# EAGLE library part TQ2 (library dl9sec_public)
Panasonic TQ2 relay https://www.panasonic-electric-works.com/pew/at/de/downloads/ds_61020_en_tq_pd.pdf
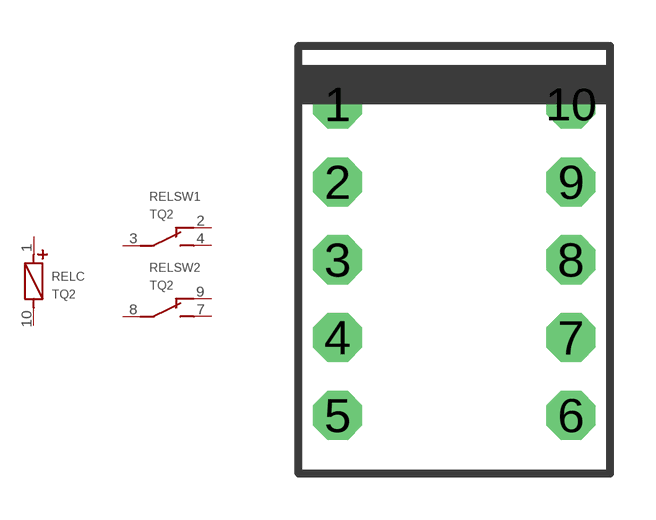
[diagram p11: symbol with the pads of RELTQ2; footprint RELTQ2]

Designator prefix REL; gates C=RELCOIL SW1=RELSPDT SW2=RELSPDT

## TQ2-5V  [RELTQ2]
1  C:+  pwr
2  SW1:NC  pas
3  SW1:COM  pas
4  SW1:NO  pas
7  SW2:NO  pas
8  SW2:COM  pas
9  SW2:NC  pas
10  C:-  pwr

## Footprint RELTQ2 (pad centres in mm)
Panasonic TQ2 relay
drill 0.9 pad 1.6 octagon: 1 0,0; 2 0,-2.54; 3 0,-5.08; 4 0,-7.62; 5 0,-10.16; 6 7.62,-10.16; 7 7.62,-7.62; 8 7.62,-5.08; 9 7.62,-2.54; 10 7.62,0